# Altium integrated library TI Amplifiers and Linear Operational Amplifier High Speed.IntLib: 1100 symbols (part 35 of 44)
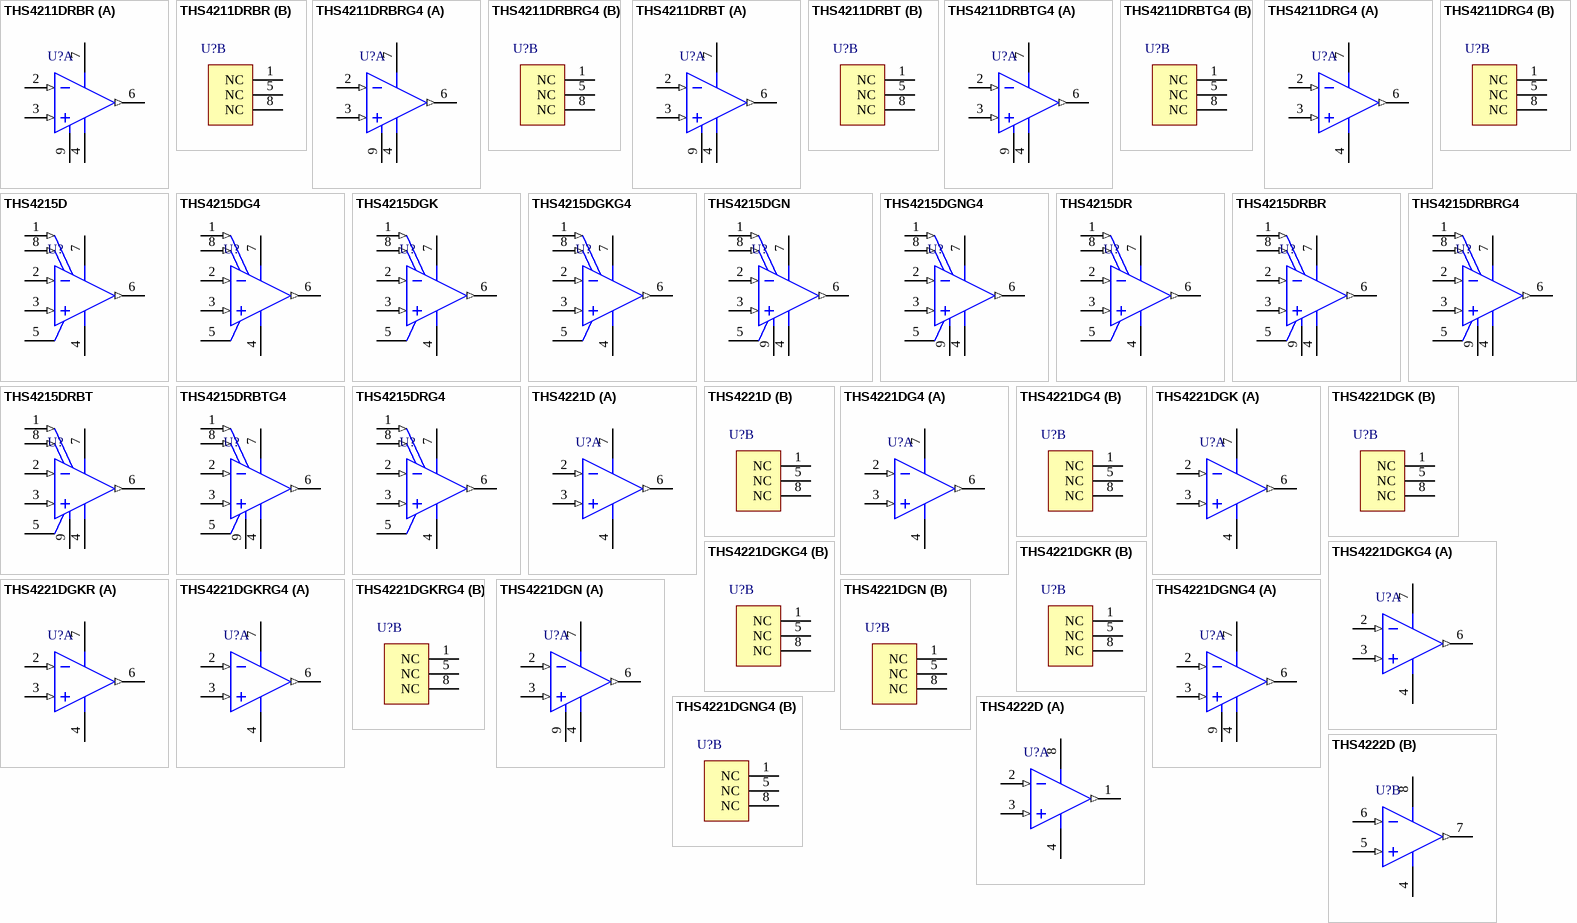
[diagram p85: symbols THS4211DRBR to THS4222D]

## THS4211DRBRG4
designator U?
Super-Fast, Ultra-Low-Distortion, High-Speed Operational Amplifier with Shutdown, 5 to 15 V, -40 to 85 degC, 8-pin SON (DRB8), Green (RoHS & no Sb/Br); Manufacturer: Texas Instruments; PartNumber: THS4211DRBRG4; 2nd Harmonic(dBc): 78; 3rd Harmonic(dBc): 100; @ MHz: 30; Acl, min stable gain(V/V): 1; BW @ Acl(MHz): 1000; Diff Gain(%): 0.007; Diff Phase(deg): 0.003; Iib(Max)(nA): 20000; Io(Typ)(mA): 170; Iq per channel(Max)(mA): 24; Settling Time (0.1%)(Typ)(ns): 22; Slew Rate(Typ)(V/us): 970; Sub Family: High Output Current Amplifier (>=50mA), High Speed Amplifier (>=50MHz); THD (Fc is 1 MHz)(Typ)(dB): -90; Vio(Max)(mV): 3; Vn at Flatband(Typ)(nV/rtHz): 7; Vs(Max)(V): 15; Vs(Min)(V): 5; DatasheetVersion: SLOS400E; PackageVersion: 4203482-2/K, 06/2012; PackageReference: DRB8-1750X1500TP; PackageDescription: 8-Pin Plastic Small Outline, Body 3 x 3 mm, Pitch 0.65 mm; Supplier 1: Digi-Key; Supplier Part Number 1: THS4211DRBRG4-ND; Supplier 2: Mouser; Supplier Part Number 2: 595-THS4211DRBRG4; Eco-Plan: Green (RoHS & no Sb/Br); Number of Channels: 1; Mounting Technology: Surface Mount; ComponentLink1Description: Manufacturer URL; ComponentLink1URL: http://www.ti.com/; ComponentLink2Description: Datasheet; ComponentLink2URL: http://www.ti.com/general/docs/lit/getliterature.tsp?genericPartNumber=THS4211&fileType=pdf; ComponentLink3Description: Package Specification; ComponentLink3URL: http://www.ti.com/litv/pdf/mpds118h
footprint TI-DRB8-1750X1500TP_V (SON, 8-Leads, Body 3x3mm, Pitch 0.65mm, Thermal Pad 1.50 x 3.8mm)
part A pins: 2 IN- (in), 3 IN+ (in), 4 VS- (power), 6 VOUT (out), 7 VS+ (power), 9 EP
part B pins: 1 NC, 5 NC, 8 NC

## THS4211DRBT
designator U?
Super-Fast, Ultra-Low-Distortion, High-Speed Operational Amplifier with Shutdown, 5 to 15 V, -40 to 85 degC, 8-pin SON (DRB8), Green (RoHS & no Sb/Br); Manufacturer: Texas Instruments; PartNumber: THS4211DRBT; 2nd Harmonic(dBc): 78; 3rd Harmonic(dBc): 100; @ MHz: 30; Acl, min stable gain(V/V): 1; BW @ Acl(MHz): 1000; Diff Gain(%): 0.007; Diff Phase(deg): 0.003; Iib(Max)(nA): 20000; Io(Typ)(mA): 170; Iq per channel(Max)(mA): 24; Settling Time (0.1%)(Typ)(ns): 22; Slew Rate(Typ)(V/us): 970; Sub Family: High Output Current Amplifier (>=50mA), High Speed Amplifier (>=50MHz); THD (Fc is 1 MHz)(Typ)(dB): -90; Vio(Max)(mV): 3; Vn at Flatband(Typ)(nV/rtHz): 7; Vs(Max)(V): 15; Vs(Min)(V): 5; DatasheetVersion: SLOS400E; PackageVersion: 4203482-2/K, 06/2012; PackageReference: DRB8-1750X1500TP; PackageDescription: 8-Pin Plastic Small Outline, Body 3 x 3 mm, Pitch 0.65 mm; Supplier 1: Digi-Key; Supplier Part Number 1: 296-16710-2-ND; Supplier 2: Digi-Key; Supplier Part Number 2: 296-16710-1-ND; Supplier 3: Digi-Key; Supplier Part Number 3: 296-16710-6-ND; Supplier 4: Mouser; Supplier Part Number 4: 595-THS4211DRBT; Eco-Plan: Green (RoHS & no Sb/Br); Number of Channels: 1; Mounting Technology: Surface Mount; ComponentLink1Description: Manufacturer URL; ComponentLink1URL: http://www.ti.com/; ComponentLink2Description: Datasheet; ComponentLink2URL: http://www.ti.com/general/docs/lit/getliterature.tsp?genericPartNumber=THS4211&fileType=pdf; ComponentLink3Description: Package Specification; ComponentLink3URL: http://www.ti.com/litv/pdf/mpds118h
footprint TI-DRB8-1750X1500TP_V (SON, 8-Leads, Body 3x3mm, Pitch 0.65mm, Thermal Pad 1.50 x 3.8mm)
part A pins: 2 IN- (in), 3 IN+ (in), 4 VS- (power), 6 VOUT (out), 7 VS+ (power), 9 EP
part B pins: 1 NC, 5 NC, 8 NC

## THS4211DRBTG4
designator U?
Super-Fast, Ultra-Low-Distortion, High-Speed Operational Amplifier with Shutdown, 5 to 15 V, -40 to 85 degC, 8-pin SON (DRB8), Green (RoHS & no Sb/Br); Manufacturer: Texas Instruments; PartNumber: THS4211DRBTG4; 2nd Harmonic(dBc): 78; 3rd Harmonic(dBc): 100; @ MHz: 30; Acl, min stable gain(V/V): 1; BW @ Acl(MHz): 1000; Diff Gain(%): 0.007; Diff Phase(deg): 0.003; Iib(Max)(nA): 20000; Io(Typ)(mA): 170; Iq per channel(Max)(mA): 24; Settling Time (0.1%)(Typ)(ns): 22; Slew Rate(Typ)(V/us): 970; Sub Family: High Output Current Amplifier (>=50mA), High Speed Amplifier (>=50MHz); THD (Fc is 1 MHz)(Typ)(dB): -90; Vio(Max)(mV): 3; Vn at Flatband(Typ)(nV/rtHz): 7; Vs(Max)(V): 15; Vs(Min)(V): 5; DatasheetVersion: SLOS400E; PackageVersion: 4203482-2/K, 06/2012; PackageReference: DRB8-1750X1500TP; PackageDescription: 8-Pin Plastic Small Outline, Body 3 x 3 mm, Pitch 0.65 mm; Supplier 1: Digi-Key; Supplier Part Number 1: THS4211DRBTG4-ND; Supplier 2: Mouser; Supplier Part Number 2: 595-THS4211DRBTG4; Eco-Plan: Green (RoHS & no Sb/Br); Number of Channels: 1; Mounting Technology: Surface Mount; ComponentLink1Description: Manufacturer URL; ComponentLink1URL: http://www.ti.com/; ComponentLink2Description: Datasheet; ComponentLink2URL: http://www.ti.com/general/docs/lit/getliterature.tsp?genericPartNumber=THS4211&fileType=pdf; ComponentLink3Description: Package Specification; ComponentLink3URL: http://www.ti.com/litv/pdf/mpds118h
footprint TI-DRB8-1750X1500TP_V (SON, 8-Leads, Body 3x3mm, Pitch 0.65mm, Thermal Pad 1.50 x 3.8mm)
part A pins: 2 IN- (in), 3 IN+ (in), 4 VS- (power), 6 VOUT (out), 7 VS+ (power), 9 EP
part B pins: 1 NC, 5 NC, 8 NC

## THS4211DRG4
designator U?
Super-Fast, Ultra-Low-Distortion, High-Speed Operational Amplifier with Shutdown, 5 to 15 V, -40 to 85 degC, 8-pin SOIC (D8), Green (RoHS & no Sb/Br); Manufacturer: Texas Instruments; PartNumber: THS4211DRG4; 2nd Harmonic(dBc): 78; 3rd Harmonic(dBc): 100; @ MHz: 30; Acl, min stable gain(V/V): 1; BW @ Acl(MHz): 1000; Diff Gain(%): 0.007; Diff Phase(deg): 0.003; Iib(Max)(nA): 20000; Io(Typ)(mA): 170; Iq per channel(Max)(mA): 24; Settling Time (0.1%)(Typ)(ns): 22; Slew Rate(Typ)(V/us): 970; Sub Family: High Output Current Amplifier (>=50mA), High Speed Amplifier (>=50MHz); THD (Fc is 1 MHz)(Typ)(dB): -90; Vio(Max)(mV): 14; Vn at Flatband(Typ)(nV/rtHz): 7; Vs(Max)(V): 15; Vs(Min)(V): 5; DatasheetVersion: SLOS400E; PackageVersion: 4040047-3/M, 06/2011; PackageReference: D8; PackageDescription: 8-Pin Plastic Small Outline, Body 4.9 x 3.9 mm, Pitch 1.27 mm; Supplier 1: Digi-Key; Supplier Part Number 1: THS4211DRG4-ND; Supplier 2: Newark; Supplier Part Number 2: 33K6956; Supplier 3: Mouser; Supplier Part Number 3: 595-THS4211DRG4; Eco-Plan: Green (RoHS & no Sb/Br); Number of Channels: 1; Mounting Technology: Surface Mount; Code_JEDEC: MS-012; ComponentLink1Description: Manufacturer URL; ComponentLink1URL: http://www.ti.com/; ComponentLink2Description: Datasheet; ComponentLink2URL: http://www.ti.com/general/docs/lit/getliterature.tsp?genericPartNumber=THS4211&fileType=pdf; ComponentLink3Description: Package Specification; ComponentLink3URL: http://www.ti.com/litv/pdf/msoi002j
footprint TI-D8_N (SOIC, 8-Leads, Body 4.9x3.9mm, Pitch 1.27mm, IPC Medium Density)
footprint TI-D8_L (SOIC, 8-Leads, Body 4.9x3.9mm, Pitch 1.27mm, IPC High Density)
footprint TI-D8_M (SOIC, 8-Leads, Body 4.9x3.9mm, Pitch 1.27mm, IPC Low Density)
part A pins: 2 IN- (in), 3 IN+ (in), 4 VS- (power), 6 VOUT (out), 7 VS+ (power)
part B pins: 1 NC, 5 NC, 8 NC

## THS4215D
designator U?
Super-Fast, Ultra-Low-Distortion, High-Speed Operational Amplifier with Shutdown, 5 to 15 V, -40 to 85 degC, 8-pin SOIC (D8), Green (RoHS & no Sb/Br); Manufacturer: Texas Instruments; PartNumber: THS4215D; 2nd Harmonic(dBc): 78; 3rd Harmonic(dBc): 100; @ MHz: 30; Acl, min stable gain(V/V): 1; BW @ Acl(MHz): 1000; Diff Gain(%): 0.007; Diff Phase(deg): 0.003; Iib(Max)(nA): 20000; Io(Typ)(mA): 170; Iq per channel(Max)(mA): 24; Settling Time (0.1%)(Typ)(ns): 22; Slew Rate(Typ)(V/us): 970; Sub Family: High Output Current Amplifier (>=50mA), High Speed Amplifier (>=50MHz); THD (Fc is 1 MHz)(Typ)(dB): -90; Vio(Max)(mV): 3; Vn at Flatband(Typ)(nV/rtHz): 7; Vs(Max)(V): 15; Vs(Min)(V): 5; DatasheetVersion: SLOS400E; PackageVersion: 4040047-3/M, 06/2011; PackageReference: D8; PackageDescription: 8-Pin Plastic Small Outline, Body 4.9 x 3.9 mm, Pitch 1.27 mm; Supplier 1: Digi-Key; Supplier Part Number 1: 296-13791-5-ND; Supplier 2: Newark; Supplier Part Number 2: 02E7116; Supplier 3: Mouser; Supplier Part Number 3: 595-THS4215D; Eco-Plan: Green (RoHS & no Sb/Br); Number of Channels: 1; Mounting Technology: Surface Mount; Code_JEDEC: MS-012; ComponentLink1Description: Manufacturer URL; ComponentLink1URL: http://www.ti.com/; ComponentLink2Description: Datasheet; ComponentLink2URL: http://www.ti.com/general/docs/lit/getliterature.tsp?genericPartNumber=THS4215&fileType=pdf; ComponentLink3Description: Package Specification; ComponentLink3URL: http://www.ti.com/litv/pdf/msoi002j
footprint TI-D8_N (SOIC, 8-Leads, Body 4.9x3.9mm, Pitch 1.27mm, IPC Medium Density)
footprint TI-D8_L (SOIC, 8-Leads, Body 4.9x3.9mm, Pitch 1.27mm, IPC High Density)
footprint TI-D8_M (SOIC, 8-Leads, Body 4.9x3.9mm, Pitch 1.27mm, IPC Low Density)
pins: 1 REF (in), 2 IN- (in), 3 IN+ (in), 4 VS- (power), 5 NC, 6 VOUT (out), 7 VS+ (power), 8 ~{PD} (in)

## THS4215DG4
designator U?
Super-Fast, Ultra-Low-Distortion, High-Speed Operational Amplifier with Shutdown, 5 to 15 V, -40 to 85 degC, 8-pin SOIC (D8), Green (RoHS & no Sb/Br); Manufacturer: Texas Instruments; PartNumber: THS4215DG4; 2nd Harmonic(dBc): 78; 3rd Harmonic(dBc): 100; @ MHz: 30; Acl, min stable gain(V/V): 1; BW @ Acl(MHz): 1000; Diff Gain(%): 0.007; Diff Phase(deg): 0.003; Iib(Max)(nA): 20000; Io(Typ)(mA): 170; Iq per channel(Max)(mA): 24; Settling Time (0.1%)(Typ)(ns): 22; Slew Rate(Typ)(V/us): 970; Sub Family: High Output Current Amplifier (>=50mA), High Speed Amplifier (>=50MHz); THD (Fc is 1 MHz)(Typ)(dB): -90; Vio(Max)(mV): 3; Vn at Flatband(Typ)(nV/rtHz): 7; Vs(Max)(V): 15; Vs(Min)(V): 5; DatasheetVersion: SLOS400E; PackageVersion: 4040047-3/M, 06/2011; PackageReference: D8; PackageDescription: 8-Pin Plastic Small Outline, Body 4.9 x 3.9 mm, Pitch 1.27 mm; Supplier 1: Digi-Key; Supplier Part Number 1: THS4215DG4-ND; Supplier 2: Newark; Supplier Part Number 2: 28M7735; Supplier 3: Mouser; Supplier Part Number 3: 595-THS4215DG4; Eco-Plan: Green (RoHS & no Sb/Br); Number of Channels: 1; Mounting Technology: Surface Mount; Code_JEDEC: MS-012; ComponentLink1Description: Manufacturer URL; ComponentLink1URL: http://www.ti.com/; ComponentLink2Description: Datasheet; ComponentLink2URL: http://www.ti.com/general/docs/lit/getliterature.tsp?genericPartNumber=THS4215&fileType=pdf; ComponentLink3Description: Package Specification; ComponentLink3URL: http://www.ti.com/litv/pdf/msoi002j
footprint TI-D8_N (SOIC, 8-Leads, Body 4.9x3.9mm, Pitch 1.27mm, IPC Medium Density)
footprint TI-D8_L (SOIC, 8-Leads, Body 4.9x3.9mm, Pitch 1.27mm, IPC High Density)
footprint TI-D8_M (SOIC, 8-Leads, Body 4.9x3.9mm, Pitch 1.27mm, IPC Low Density)
pins: 1 REF (in), 2 IN- (in), 3 IN+ (in), 4 VS- (power), 5 NC, 6 VOUT (out), 7 VS+ (power), 8 ~{PD} (in)

## THS4215DGK
designator U?
Super-Fast, Ultra-Low-Distortion, High-Speed Operational Amplifier with Shutdown, 5 to 15 V, -40 to 85 degC, 8-pin SOP (DGK8), Green (RoHS & no Sb/Br); Manufacturer: Texas Instruments; PartNumber: THS4215DGK; 2nd Harmonic(dBc): 78; 3rd Harmonic(dBc): 100; @ MHz: 30; Acl, min stable gain(V/V): 1; BW @ Acl(MHz): 1000; Diff Gain(%): 0.007; Diff Phase(deg): 0.003; Iib(Max)(nA): 20000; Io(Typ)(mA): 170; Iq per channel(Max)(mA): 24; Settling Time (0.1%)(Typ)(ns): 22; Slew Rate(Typ)(V/us): 970; Sub Family: High Output Current Amplifier (>=50mA), High Speed Amplifier (>=50MHz); THD (Fc is 1 MHz)(Typ)(dB): -90; Vio(Max)(mV): 3; Vn at Flatband(Typ)(nV/rtHz): 7; Vs(Max)(V): 15; Vs(Min)(V): 5; DatasheetVersion: SLOS400E; PackageVersion: 4073329/E, 05/2006; PackageReference: DGK8; PackageDescription: 8-Pin Thin Small Outline, Body 3 x 3 mm, Pitch 0.65 mm; Supplier 1: Digi-Key; Supplier Part Number 1: 296-16711-5-ND; Supplier 2: Mouser; Supplier Part Number 2: 595-THS4215DGK; Eco-Plan: Green (RoHS & no Sb/Br); Number of Channels: 1; Mounting Technology: Surface Mount; Code_JEDEC: MO-187; ComponentLink1Description: Manufacturer URL; ComponentLink1URL: http://www.ti.com/; ComponentLink2Description: Datasheet; ComponentLink2URL: http://www.ti.com/general/docs/lit/getliterature.tsp?genericPartNumber=THS4215&fileType=pdf; ComponentLink3Description: Package Specification; ComponentLink3URL: http://www.ti.com/litv/pdf/mpds028d
footprint TI-DGK8_N (SOP, 8-Leads, Body 3x3mm, Pitch 0.65mm, IPC Medium Density)
footprint TI-DGK8_L (SOP, 8-Leads, Body 3x3mm, Pitch 0.65mm, IPC High Density)
footprint TI-DGK8_M (SOP, 8-Leads, Body 3x3mm, Pitch 0.65mm, IPC Low Density)
pins: 1 REF (in), 2 IN- (in), 3 IN+ (in), 4 VS- (power), 5 NC, 6 VOUT (out), 7 VS+ (power), 8 ~{PD} (in)

## THS4215DGKG4
designator U?
Super-Fast, Ultra-Low-Distortion, High-Speed Operational Amplifier with Shutdown, 5 to 15 V, -40 to 85 degC, 8-pin SOP (DGK8), Green (RoHS & no Sb/Br); Manufacturer: Texas Instruments; PartNumber: THS4215DGKG4; 2nd Harmonic(dBc): 78; 3rd Harmonic(dBc): 100; @ MHz: 30; Acl, min stable gain(V/V): 1; BW @ Acl(MHz): 1000; Diff Gain(%): 0.007; Diff Phase(deg): 0.003; Iib(Max)(nA): 20000; Io(Typ)(mA): 170; Iq per channel(Max)(mA): 24; Settling Time (0.1%)(Typ)(ns): 22; Slew Rate(Typ)(V/us): 970; Sub Family: High Output Current Amplifier (>=50mA), High Speed Amplifier (>=50MHz); THD (Fc is 1 MHz)(Typ)(dB): -90; Vio(Max)(mV): 3; Vn at Flatband(Typ)(nV/rtHz): 7; Vs(Max)(V): 15; Vs(Min)(V): 5; DatasheetVersion: SLOS400E; PackageVersion: 4073329/E, 05/2006; PackageReference: DGK8; PackageDescription: 8-Pin Thin Small Outline, Body 3 x 3 mm, Pitch 0.65 mm; Supplier 1: Digi-Key; Supplier Part Number 1: THS4215DGKG4-ND; Supplier 2: Mouser; Supplier Part Number 2: 595-THS4215DGKG4; Eco-Plan: Green (RoHS & no Sb/Br); Number of Channels: 1; Mounting Technology: Surface Mount; Code_JEDEC: MO-187; ComponentLink1Description: Manufacturer URL; ComponentLink1URL: http://www.ti.com/; ComponentLink2Description: Datasheet; ComponentLink2URL: http://www.ti.com/general/docs/lit/getliterature.tsp?genericPartNumber=THS4215&fileType=pdf; ComponentLink3Description: Package Specification; ComponentLink3URL: http://www.ti.com/litv/pdf/mpds028d
footprint TI-DGK8_N (SOP, 8-Leads, Body 3x3mm, Pitch 0.65mm, IPC Medium Density)
footprint TI-DGK8_L (SOP, 8-Leads, Body 3x3mm, Pitch 0.65mm, IPC High Density)
footprint TI-DGK8_M (SOP, 8-Leads, Body 3x3mm, Pitch 0.65mm, IPC Low Density)
pins: 1 REF (in), 2 IN- (in), 3 IN+ (in), 4 VS- (power), 5 NC, 6 VOUT (out), 7 VS+ (power), 8 ~{PD} (in)

## THS4215DGN
designator U?
Super-Fast, Ultra-Low-Distortion, High-Speed Operational Amplifier with Shutdown, 5 to 15 V, -40 to 85 degC, 8-pin SOIC (DGN8), Green (RoHS & no Sb/Br); Manufacturer: Texas Instruments; PartNumber: THS4215DGN; 2nd Harmonic(dBc): 78; 3rd Harmonic(dBc): 100; @ MHz: 30; Acl, min stable gain(V/V): 1; BW @ Acl(MHz): 1000; Diff Gain(%): 0.007; Diff Phase(deg): 0.003; Iib(Max)(nA): 20000; Io(Typ)(mA): 170; Iq per channel(Max)(mA): 24; Settling Time (0.1%)(Typ)(ns): 22; Slew Rate(Typ)(V/us): 970; Sub Family: High Output Current Amplifier (>=50mA), High Speed Amplifier (>=50MHz); THD (Fc is 1 MHz)(Typ)(dB): -90; Vio(Max)(mV): 3; Vn at Flatband(Typ)(nV/rtHz): 7; Vs(Max)(V): 15; Vs(Min)(V): 5; DatasheetVersion: SLOS400E; PackageVersion: 4073271/F, 05/2011; PackageReference: DGN8-1760X1425TP; PackageDescription: 8-pin Plastic Small Outline, Body 3 x 3 mm, Pitch 0.65 mm; Supplier 1: Digi-Key; Supplier Part Number 1: 296-13658-5-ND; Supplier 2: Newark; Supplier Part Number 2: 02E7117; Supplier 3: Mouser; Supplier Part Number 3: 595-THS4215DGN; Eco-Plan: Green (RoHS & no Sb/Br); Number of Channels: 1; Mounting Technology: Surface Mount; Code_JEDEC: MO-187; ComponentLink1Description: Manufacturer URL; ComponentLink1URL: http://www.ti.com/; ComponentLink2Description: Datasheet; ComponentLink2URL: http://www.ti.com/general/docs/lit/getliterature.tsp?genericPartNumber=THS4215&fileType=pdf; ComponentLink3Description: Package Specification; ComponentLink3URL: http://www.ti.com/litv/pdf/mpds046e
footprint TI-DGN8-1760X1425TP_N (SOP, 8-Leads, Body 3x3mm, Pitch 0.65mm, Thermal Pad 1.76x1.425mm, IPC Medium Density)
footprint TI-DGN8-1760X1425TP_L (SOP, 8-Leads, Body 3x3mm, Pitch 0.65mm, Thermal Pad 1.76x1.425mm, IPC High Density)
footprint TI-DGN8-1760X1425TP_M (SOP, 8-Leads, Body 3x3mm, Pitch 0.65mm, Thermal Pad 1.76 x 1.425 mm, IPC Low Density)
pins: 1 REF (in), 2 IN- (in), 3 IN+ (in), 4 VS- (power), 5 NC, 6 VOUT (out), 7 VS+ (power), 8 ~{PD} (in), 9 EP (power)

## THS4215DGNG4
designator U?
Super-Fast, Ultra-Low-Distortion, High-Speed Operational Amplifier with Shutdown, 5 to 15 V, -40 to 85 degC, 8-pin SOIC (DGN8), Green (RoHS & no Sb/Br); Manufacturer: Texas Instruments; PartNumber: THS4215DGNG4; 2nd Harmonic(dBc): 78; 3rd Harmonic(dBc): 100; @ MHz: 30; Acl, min stable gain(V/V): 1; BW @ Acl(MHz): 1000; Diff Gain(%): 0.007; Diff Phase(deg): 0.003; Iib(Max)(nA): 20000; Io(Typ)(mA): 170; Iq per channel(Max)(mA): 24; Settling Time (0.1%)(Typ)(ns): 22; Slew Rate(Typ)(V/us): 970; Sub Family: High Output Current Amplifier (>=50mA), High Speed Amplifier (>=50MHz); THD (Fc is 1 MHz)(Typ)(dB): -90; Vio(Max)(mV): 3; Vn at Flatband(Typ)(nV/rtHz): 7; Vs(Max)(V): 15; Vs(Min)(V): 5; DatasheetVersion: SLOS400E; PackageVersion: 4073271/F, 05/2011; PackageReference: DGN8-1760X1425TP; PackageDescription: 8-pin Plastic Small Outline, Body 3 x 3 mm, Pitch 0.65 mm; Supplier 1: Digi-Key; Supplier Part Number 1: THS4215DGNG4-ND; Supplier 2: Mouser; Supplier Part Number 2: 595-THS4215DGNG4; Eco-Plan: Green (RoHS & no Sb/Br); Number of Channels: 1; Mounting Technology: Surface Mount; Code_JEDEC: MO-187; ComponentLink1Description: Manufacturer URL; ComponentLink1URL: http://www.ti.com/; ComponentLink2Description: Datasheet; ComponentLink2URL: http://www.ti.com/general/docs/lit/getliterature.tsp?genericPartNumber=THS4215&fileType=pdf; ComponentLink3Description: Package Specification; ComponentLink3URL: http://www.ti.com/litv/pdf/mpds046e
footprint TI-DGN8-1760X1425TP_N (SOP, 8-Leads, Body 3x3mm, Pitch 0.65mm, Thermal Pad 1.76x1.425mm, IPC Medium Density)
footprint TI-DGN8-1760X1425TP_L (SOP, 8-Leads, Body 3x3mm, Pitch 0.65mm, Thermal Pad 1.76x1.425mm, IPC High Density)
footprint TI-DGN8-1760X1425TP_M (SOP, 8-Leads, Body 3x3mm, Pitch 0.65mm, Thermal Pad 1.76 x 1.425 mm, IPC Low Density)
pins: 1 REF (in), 2 IN- (in), 3 IN+ (in), 4 VS- (power), 5 NC, 6 VOUT (out), 7 VS+ (power), 8 ~{PD} (in), 9 EP (power)

## THS4215DR
designator U?
Super-Fast, Ultra-Low-Distortion, High-Speed Operational Amplifier with Shutdown, 5 to 15 V, -40 to 85 degC, 8-pin SOIC (D8), Green (RoHS & no Sb/Br); Manufacturer: Texas Instruments; PartNumber: THS4215DR; 2nd Harmonic(dBc): 78; 3rd Harmonic(dBc): 100; @ MHz: 30; Acl, min stable gain(V/V): 1; BW @ Acl(MHz): 1000; Diff Gain(%): 0.007; Diff Phase(deg): 0.003; Iib(Max)(nA): 20000; Io(Typ)(mA): 170; Iq per channel(Max)(mA): 24; Settling Time (0.1%)(Typ)(ns): 22; Slew Rate(Typ)(V/us): 970; Sub Family: High Output Current Amplifier (>=50mA), High Speed Amplifier (>=50MHz); THD (Fc is 1 MHz)(Typ)(dB): -90; Vio(Max)(mV): 3; Vn at Flatband(Typ)(nV/rtHz): 7; Vs(Max)(V): 15; Vs(Min)(V): 5; DatasheetVersion: SLOS400E; PackageVersion: 4040047-3/M, 06/2011; PackageReference: D8; PackageDescription: 8-Pin Plastic Small Outline, Body 4.9 x 3.9 mm, Pitch 1.27 mm; Supplier 1: Digi-Key; Supplier Part Number 1: THS4215DR-ND; Supplier 2: Mouser; Supplier Part Number 2: 595-THS4215DR; Eco-Plan: Green (RoHS & no Sb/Br); Number of Channels: 1; Mounting Technology: Surface Mount; Code_JEDEC: MS-012; ComponentLink1Description: Manufacturer URL; ComponentLink1URL: http://www.ti.com/; ComponentLink2Description: Datasheet; ComponentLink2URL: http://www.ti.com/general/docs/lit/getliterature.tsp?genericPartNumber=THS4215&fileType=pdf; ComponentLink3Description: Package Specification; ComponentLink3URL: http://www.ti.com/litv/pdf/msoi002j
footprint TI-D8_N (SOIC, 8-Leads, Body 4.9x3.9mm, Pitch 1.27mm, IPC Medium Density)
footprint TI-D8_L (SOIC, 8-Leads, Body 4.9x3.9mm, Pitch 1.27mm, IPC High Density)
footprint TI-D8_M (SOIC, 8-Leads, Body 4.9x3.9mm, Pitch 1.27mm, IPC Low Density)
pins: 1 REF (in), 2 IN- (in), 3 IN+ (in), 4 VS- (power), 5 NC, 6 VOUT (out), 7 VS+ (power), 8 ~{PD} (in)

## THS4215DRBR
designator U?
Super-Fast, Ultra-Low-Distortion, High-Speed Operational Amplifier with Shutdown, 5 to 15 V, -40 to 85 degC, 8-pin SON (DRB8), Green (RoHS & no Sb/Br); Manufacturer: Texas Instruments; PartNumber: THS4215DRBR; 2nd Harmonic(dBc): 78; 3rd Harmonic(dBc): 100; @ MHz: 30; Acl, min stable gain(V/V): 1; BW @ Acl(MHz): 1000; Diff Gain(%): 0.007; Diff Phase(deg): 0.003; Iib(Max)(nA): 20000; Io(Typ)(mA): 170; Iq per channel(Max)(mA): 24; Settling Time (0.1%)(Typ)(ns): 22; Slew Rate(Typ)(V/us): 970; Sub Family: High Output Current Amplifier (>=50mA), High Speed Amplifier (>=50MHz); THD (Fc is 1 MHz)(Typ)(dB): -90; Vio(Max)(mV): 3; Vn at Flatband(Typ)(nV/rtHz): 7; Vs(Max)(V): 15; Vs(Min)(V): 5; DatasheetVersion: SLOS400E; PackageVersion: 4203482-2/K, 06/2012; PackageReference: DRB8-1750X1500TP; PackageDescription: 8-Pin Plastic Small Outline, Body 3 x 3 mm, Pitch 0.65 mm; Supplier 1: Digi-Key; Supplier Part Number 1: 296-16712-2-ND; Supplier 2: Digi-Key; Supplier Part Number 2: 296-16712-1-ND; Supplier 3: Digi-Key; Supplier Part Number 3: 296-16712-6-ND; Supplier 4: Mouser; Supplier Part Number 4: 595-THS4215DRBR; Eco-Plan: Green (RoHS & no Sb/Br); Number of Channels: 1; Mounting Technology: Surface Mount; ComponentLink1Description: Manufacturer URL; ComponentLink1URL: http://www.ti.com/; ComponentLink2Description: Datasheet; ComponentLink2URL: http://www.ti.com/general/docs/lit/getliterature.tsp?genericPartNumber=THS4215&fileType=pdf; ComponentLink3Description: Package Specification; ComponentLink3URL: http://www.ti.com/litv/pdf/mpds118h
footprint TI-DRB8-1750X1500TP_V (SON, 8-Leads, Body 3x3mm, Pitch 0.65mm, Thermal Pad 1.50 x 3.8mm)
pins: 1 REF (in), 2 IN- (in), 3 IN+ (in), 4 VS- (power), 5 NC, 6 VOUT (out), 7 VS+ (power), 8 ~{PD} (in), 9 EP (power)

## THS4215DRBRG4
designator U?
Super-Fast, Ultra-Low-Distortion, High-Speed Operational Amplifier with Shutdown, 5 to 15 V, -40 to 85 degC, 8-pin SON (DRB8), Green (RoHS & no Sb/Br); Manufacturer: Texas Instruments; PartNumber: THS4215DRBRG4; 2nd Harmonic(dBc): 78; 3rd Harmonic(dBc): 100; @ MHz: 30; Acl, min stable gain(V/V): 1; BW @ Acl(MHz): 1000; Diff Gain(%): 0.007; Diff Phase(deg): 0.003; Iib(Max)(nA): 20000; Io(Typ)(mA): 170; Iq per channel(Max)(mA): 24; Settling Time (0.1%)(Typ)(ns): 22; Slew Rate(Typ)(V/us): 970; Sub Family: High Output Current Amplifier (>=50mA), High Speed Amplifier (>=50MHz); THD (Fc is 1 MHz)(Typ)(dB): -90; Vio(Max)(mV): 3; Vn at Flatband(Typ)(nV/rtHz): 7; Vs(Max)(V): 15; Vs(Min)(V): 5; DatasheetVersion: SLOS400E; PackageVersion: 4203482-2/K, 06/2012; PackageReference: DRB8-1750X1500TP; PackageDescription: 8-Pin Plastic Small Outline, Body 3 x 3 mm, Pitch 0.65 mm; Supplier 1: Digi-Key; Supplier Part Number 1: THS4215DRBRG4-ND; Supplier 2: Mouser; Supplier Part Number 2: 595-THS4215DRBRG4; Eco-Plan: Green (RoHS & no Sb/Br); Number of Channels: 1; Mounting Technology: Surface Mount; ComponentLink1Description: Manufacturer URL; ComponentLink1URL: http://www.ti.com/; ComponentLink2Description: Datasheet; ComponentLink2URL: http://www.ti.com/general/docs/lit/getliterature.tsp?genericPartNumber=THS4215&fileType=pdf; ComponentLink3Description: Package Specification; ComponentLink3URL: http://www.ti.com/litv/pdf/mpds118h
footprint TI-DRB8-1750X1500TP_V (SON, 8-Leads, Body 3x3mm, Pitch 0.65mm, Thermal Pad 1.50 x 3.8mm)
pins: 1 REF (in), 2 IN- (in), 3 IN+ (in), 4 VS- (power), 5 NC, 6 VOUT (out), 7 VS+ (power), 8 ~{PD} (in), 9 EP (power)

## THS4215DRBT
designator U?
Super-Fast, Ultra-Low-Distortion, High-Speed Operational Amplifier with Shutdown, 5 to 15 V, -40 to 85 degC, 8-pin SON (DRB8), Green (RoHS & no Sb/Br); Manufacturer: Texas Instruments; PartNumber: THS4215DRBT; 2nd Harmonic(dBc): 78; 3rd Harmonic(dBc): 100; @ MHz: 30; Acl, min stable gain(V/V): 1; BW @ Acl(MHz): 1000; Diff Gain(%): 0.007; Diff Phase(deg): 0.003; Iib(Max)(nA): 20000; Io(Typ)(mA): 170; Iq per channel(Max)(mA): 24; Settling Time (0.1%)(Typ)(ns): 22; Slew Rate(Typ)(V/us): 970; Sub Family: High Output Current Amplifier (>=50mA), High Speed Amplifier (>=50MHz); THD (Fc is 1 MHz)(Typ)(dB): -90; Vio(Max)(mV): 3; Vn at Flatband(Typ)(nV/rtHz): 7; Vs(Max)(V): 15; Vs(Min)(V): 5; DatasheetVersion: SLOS400E; PackageVersion: 4203482-2/K, 06/2012; PackageReference: DRB8-1750X1500TP; PackageDescription: 8-Pin Plastic Small Outline, Body 3 x 3 mm, Pitch 0.65 mm; Supplier 1: Digi-Key; Supplier Part Number 1: 296-32339-2-ND; Supplier 2: Digi-Key; Supplier Part Number 2: 296-32339-1-ND; Supplier 3: Digi-Key; Supplier Part Number 3: 296-32339-6-ND; Supplier 4: Mouser; Supplier Part Number 4: 595-THS4215DRBT; Eco-Plan: Green (RoHS & no Sb/Br); Number of Channels: 1; Mounting Technology: Surface Mount; ComponentLink1Description: Manufacturer URL; ComponentLink1URL: http://www.ti.com/; ComponentLink2Description: Datasheet; ComponentLink2URL: http://www.ti.com/general/docs/lit/getliterature.tsp?genericPartNumber=THS4215&fileType=pdf; ComponentLink3Description: Package Specification; ComponentLink3URL: http://www.ti.com/litv/pdf/mpds118h
footprint TI-DRB8-1750X1500TP_V (SON, 8-Leads, Body 3x3mm, Pitch 0.65mm, Thermal Pad 1.50 x 3.8mm)
pins: 1 REF (in), 2 IN- (in), 3 IN+ (in), 4 VS- (power), 5 NC, 6 VOUT (out), 7 VS+ (power), 8 ~{PD} (in), 9 EP (power)

## THS4215DRBTG4
designator U?
Super-Fast, Ultra-Low-Distortion, High-Speed Operational Amplifier with Shutdown, 5 to 15 V, -40 to 85 degC, 8-pin SON (DRB8), Green (RoHS & no Sb/Br); Manufacturer: Texas Instruments; PartNumber: THS4215DRBTG4; 2nd Harmonic(dBc): 78; 3rd Harmonic(dBc): 100; @ MHz: 30; Acl, min stable gain(V/V): 1; BW @ Acl(MHz): 1000; Diff Gain(%): 0.007; Diff Phase(deg): 0.003; Iib(Max)(nA): 20000; Io(Typ)(mA): 170; Iq per channel(Max)(mA): 24; Settling Time (0.1%)(Typ)(ns): 22; Slew Rate(Typ)(V/us): 970; Sub Family: High Output Current Amplifier (>=50mA), High Speed Amplifier (>=50MHz); THD (Fc is 1 MHz)(Typ)(dB): -90; Vio(Max)(mV): 3; Vn at Flatband(Typ)(nV/rtHz): 7; Vs(Max)(V): 15; Vs(Min)(V): 5; DatasheetVersion: SLOS400E; PackageVersion: 4203482-2/K, 06/2012; PackageReference: DRB8-1750X1500TP; PackageDescription: 8-Pin Plastic Small Outline, Body 3 x 3 mm, Pitch 0.65 mm; Supplier 1: Digi-Key; Supplier Part Number 1: THS4215DRBTG4-ND; Supplier 2: Mouser; Supplier Part Number 2: 595-THS4215DRBTG4; Eco-Plan: Green (RoHS & no Sb/Br); Number of Channels: 1; Mounting Technology: Surface Mount; ComponentLink1Description: Manufacturer URL; ComponentLink1URL: http://www.ti.com/; ComponentLink2Description: Datasheet; ComponentLink2URL: http://www.ti.com/general/docs/lit/getliterature.tsp?genericPartNumber=THS4215&fileType=pdf; ComponentLink3Description: Package Specification; ComponentLink3URL: http://www.ti.com/litv/pdf/mpds118h
footprint TI-DRB8-1750X1500TP_V (SON, 8-Leads, Body 3x3mm, Pitch 0.65mm, Thermal Pad 1.50 x 3.8mm)
pins: 1 REF (in), 2 IN- (in), 3 IN+ (in), 4 VS- (power), 5 NC, 6 VOUT (out), 7 VS+ (power), 8 ~{PD} (in), 9 EP (power)

## THS4215DRG4
designator U?
Super-Fast, Ultra-Low-Distortion, High-Speed Operational Amplifier with Shutdown, 5 to 15 V, -40 to 85 degC, 8-pin SOIC (D8), Green (RoHS & no Sb/Br); Manufacturer: Texas Instruments; PartNumber: THS4215DRG4; 2nd Harmonic(dBc): 78; 3rd Harmonic(dBc): 100; @ MHz: 30; Acl, min stable gain(V/V): 1; BW @ Acl(MHz): 1000; Diff Gain(%): 0.007; Diff Phase(deg): 0.003; Iib(Max)(nA): 20000; Io(Typ)(mA): 170; Iq per channel(Max)(mA): 24; Settling Time (0.1%)(Typ)(ns): 22; Slew Rate(Typ)(V/us): 970; Sub Family: High Output Current Amplifier (>=50mA), High Speed Amplifier (>=50MHz); THD (Fc is 1 MHz)(Typ)(dB): -90; Vio(Max)(mV): 3; Vn at Flatband(Typ)(nV/rtHz): 7; Vs(Max)(V): 15; Vs(Min)(V): 5; DatasheetVersion: SLOS400E; PackageVersion: 4040047-3/M, 06/2011; PackageReference: D8; PackageDescription: 8-Pin Plastic Small Outline, Body 4.9 x 3.9 mm, Pitch 1.27 mm; Supplier 1: Digi-Key; Supplier Part Number 1: THS4215DRG4-ND; Supplier 2: Newark; Supplier Part Number 2: 33K6957; Supplier 3: Mouser; Supplier Part Number 3: 595-THS4215DRG4; Eco-Plan: Green (RoHS & no Sb/Br); Number of Channels: 1; Mounting Technology: Surface Mount; Code_JEDEC: MS-012; ComponentLink1Description: Manufacturer URL; ComponentLink1URL: http://www.ti.com/; ComponentLink2Description: Datasheet; ComponentLink2URL: http://www.ti.com/general/docs/lit/getliterature.tsp?genericPartNumber=THS4215&fileType=pdf; ComponentLink3Description: Package Specification; ComponentLink3URL: http://www.ti.com/litv/pdf/msoi002j
footprint TI-D8_N (SOIC, 8-Leads, Body 4.9x3.9mm, Pitch 1.27mm, IPC Medium Density)
footprint TI-D8_L (SOIC, 8-Leads, Body 4.9x3.9mm, Pitch 1.27mm, IPC High Density)
footprint TI-D8_M (SOIC, 8-Leads, Body 4.9x3.9mm, Pitch 1.27mm, IPC Low Density)
pins: 1 REF (in), 2 IN- (in), 3 IN+ (in), 4 VS- (power), 5 NC, 6 VOUT (out), 7 VS+ (power), 8 ~{PD} (in)

## THS4221D
designator U?
Low-Distortion High-Speed Rail-to-Rail Output Operational Amplifier, 2.7 to 15 V, -40 to 85 degC, 8-pin SOIC (D8), Green (RoHS & no Sb/Br); Manufacturer: Texas Instruments; PartNumber: THS4221D; 2nd Harmonic(dBc): 90; 3rd Harmonic(dBc): 100; @ MHz: 5; Acl, min stable gain(V/V): 1; BW @ Acl(MHz): 230; Diff Gain(%): 0.007; Iib(Max)(nA): 5000; Rail-Rail: Out; Settling Time (0.1%)(Typ)(ns): 25; Slew Rate(Typ)(V/us): 975; Sub Family: High Output Current Amplifier (>=50mA), High Speed Amplifier (>=50MHz); THD (Fc is 1 MHz)(Typ)(dB): -100; Vio(Max)(mV): 10; Vn at Flatband(Typ)(nV/rtHz): 13; Vs(Max)(V): 15; Vs(Min)(V): 2.7; DatasheetVersion: SLOS399G; PackageVersion: 4040047-3/M, 06/2011; PackageReference: D8; PackageDescription: 8-Pin Plastic Small Outline, Body 4.9 x 3.9 mm, Pitch 1.27 mm; Supplier 1: Digi-Key; Supplier Part Number 1: 296-14194-5-ND; Supplier 2: Farnell; Supplier Part Number 2: 8453314; Supplier 3: Newark; Supplier Part Number 3: 38K8257; Supplier 4: Mouser; Supplier Part Number 4: 595-THS4221D; Diff Phase(deg): 0.007; Eco-Plan: Green (RoHS & no Sb/Br); Io(Typ)(mA): 100; Number of Channels: 1; Mounting Technology: Surface Mount; Code_JEDEC: MS-012; ComponentLink1Description: Manufacturer URL; ComponentLink1URL: http://www.ti.com/; ComponentLink2Description: Datasheet; ComponentLink2URL: http://www.ti.com/general/docs/lit/getliterature.tsp?genericPartNumber=THS4221&fileType=pdf; ComponentLink3Description: Package Specification; ComponentLink3URL: http://www.ti.com/litv/pdf/msoi002j
footprint TI-D8_N (SOIC, 8-Leads, Body 4.9x3.9mm, Pitch 1.27mm, IPC Medium Density)
footprint TI-D8_L (SOIC, 8-Leads, Body 4.9x3.9mm, Pitch 1.27mm, IPC High Density)
footprint TI-D8_M (SOIC, 8-Leads, Body 4.9x3.9mm, Pitch 1.27mm, IPC Low Density)
part A pins: 2 IN- (in), 3 IN+ (in), 4 VS- (power), 6 VOUT (out), 7 VS+ (power)
part B pins: 1 NC, 5 NC, 8 NC

## THS4221DG4
designator U?
Low-Distortion High-Speed Rail-to-Rail Output Operational Amplifier, 2.7 to 15 V, -40 to 85 degC, 8-pin SOIC (D8), Green (RoHS & no Sb/Br); Manufacturer: Texas Instruments; PartNumber: THS4221DG4; 2nd Harmonic(dBc): 90; 3rd Harmonic(dBc): 100; @ MHz: 5; Acl, min stable gain(V/V): 1; BW @ Acl(MHz): 230; Diff Gain(%): 0.007; Iib(Max)(nA): 5000; Rail-Rail: Out; Settling Time (0.1%)(Typ)(ns): 25; Slew Rate(Typ)(V/us): 975; Sub Family: High Output Current Amplifier (>=50mA), High Speed Amplifier (>=50MHz); THD (Fc is 1 MHz)(Typ)(dB): -100; Vio(Max)(mV): 10; Vn at Flatband(Typ)(nV/rtHz): 13; Vs(Max)(V): 15; Vs(Min)(V): 2.7; DatasheetVersion: SLOS399G; PackageVersion: 4040047-3/M, 06/2011; PackageReference: D8; PackageDescription: 8-Pin Plastic Small Outline, Body 4.9 x 3.9 mm, Pitch 1.27 mm; Supplier 1: Digi-Key; Supplier Part Number 1: THS4221DG4-ND; Supplier 2: Mouser; Supplier Part Number 2: 595-THS4221DG4; Diff Phase(deg): 0.007; Eco-Plan: Green (RoHS & no Sb/Br); Io(Typ)(mA): 100; Number of Channels: 1; Mounting Technology: Surface Mount; Code_JEDEC: MS-012; ComponentLink1Description: Manufacturer URL; ComponentLink1URL: http://www.ti.com/; ComponentLink2Description: Datasheet; ComponentLink2URL: http://www.ti.com/general/docs/lit/getliterature.tsp?genericPartNumber=THS4221&fileType=pdf; ComponentLink3Description: Package Specification; ComponentLink3URL: http://www.ti.com/litv/pdf/msoi002j
footprint TI-D8_N (SOIC, 8-Leads, Body 4.9x3.9mm, Pitch 1.27mm, IPC Medium Density)
footprint TI-D8_L (SOIC, 8-Leads, Body 4.9x3.9mm, Pitch 1.27mm, IPC High Density)
footprint TI-D8_M (SOIC, 8-Leads, Body 4.9x3.9mm, Pitch 1.27mm, IPC Low Density)
part A pins: 2 IN- (in), 3 IN+ (in), 4 VS- (power), 6 VOUT (out), 7 VS+ (power)
part B pins: 1 NC, 5 NC, 8 NC

## THS4221DGK
designator U?
Low-Distortion High-Speed Rail-to-Rail Output Operational Amplifier, 2.7 to 15 V, -40 to 85 degC, 8-pin SOP (DGK8), Green (RoHS & no Sb/Br); Manufacturer: Texas Instruments; PartNumber: THS4221DGK; 2nd Harmonic(dBc): 90; 3rd Harmonic(dBc): 100; @ MHz: 5; Acl, min stable gain(V/V): 1; BW @ Acl(MHz): 230; Diff Gain(%): 0.007; Iib(Max)(nA): 5000; Rail-Rail: Out; Settling Time (0.1%)(Typ)(ns): 25; Slew Rate(Typ)(V/us): 975; Sub Family: High Output Current Amplifier (>=50mA), High Speed Amplifier (>=50MHz); THD (Fc is 1 MHz)(Typ)(dB): -100; Vio(Max)(mV): 10; Vn at Flatband(Typ)(nV/rtHz): 13; Vs(Max)(V): 15; Vs(Min)(V): 2.7; DatasheetVersion: SLOS399G; PackageVersion: 4073329/E, 05/2006; PackageReference: DGK8; PackageDescription: 8-Pin Thin Small Outline, Body 3 x 3 mm, Pitch 0.65 mm; Supplier 1: Digi-Key; Supplier Part Number 1: 296-16782-5-ND; Supplier 2: Mouser; Supplier Part Number 2: 595-THS4221DGK; Diff Phase(deg): 0.007; Eco-Plan: Green (RoHS & no Sb/Br); Io(Typ)(mA): 100; Number of Channels: 1; Mounting Technology: Surface Mount; Code_JEDEC: MO-187; ComponentLink1Description: Manufacturer URL; ComponentLink1URL: http://www.ti.com/; ComponentLink2Description: Datasheet; ComponentLink2URL: http://www.ti.com/general/docs/lit/getliterature.tsp?genericPartNumber=THS4221&fileType=pdf; ComponentLink3Description: Package Specification; ComponentLink3URL: http://www.ti.com/litv/pdf/mpds028d
footprint TI-DGK8_N (SOP, 8-Leads, Body 3x3mm, Pitch 0.65mm, IPC Medium Density)
footprint TI-DGK8_L (SOP, 8-Leads, Body 3x3mm, Pitch 0.65mm, IPC High Density)
footprint TI-DGK8_M (SOP, 8-Leads, Body 3x3mm, Pitch 0.65mm, IPC Low Density)
part A pins: 2 IN- (in), 3 IN+ (in), 4 VS- (power), 6 VOUT (out), 7 VS+ (power)
part B pins: 1 NC, 5 NC, 8 NC

## THS4221DGKG4
designator U?
Low-Distortion High-Speed Rail-to-Rail Output Operational Amplifier, 2.7 to 15 V, -40 to 85 degC, 8-pin SOP (DGK8), Green (RoHS & no Sb/Br); Manufacturer: Texas Instruments; PartNumber: THS4221DGKG4; 2nd Harmonic(dBc): 90; 3rd Harmonic(dBc): 100; @ MHz: 5; Acl, min stable gain(V/V): 1; BW @ Acl(MHz): 230; Diff Gain(%): 0.007; Iib(Max)(nA): 5000; Rail-Rail: Out; Settling Time (0.1%)(Typ)(ns): 25; Slew Rate(Typ)(V/us): 975; Sub Family: High Output Current Amplifier (>=50mA), High Speed Amplifier (>=50MHz); THD (Fc is 1 MHz)(Typ)(dB): -100; Vio(Max)(mV): 10; Vn at Flatband(Typ)(nV/rtHz): 13; Vs(Max)(V): 15; Vs(Min)(V): 2.7; DatasheetVersion: SLOS399G; PackageVersion: 4073329/E, 05/2006; PackageReference: DGK8; PackageDescription: 8-Pin Thin Small Outline, Body 3 x 3 mm, Pitch 0.65 mm; Supplier 1: Digi-Key; Supplier Part Number 1: THS4221DGKG4-ND; Supplier 2: Mouser; Supplier Part Number 2: 595-THS4221DGKG4; Diff Phase(deg): 0.007; Eco-Plan: Green (RoHS & no Sb/Br); Io(Typ)(mA): 100; Number of Channels: 1; Mounting Technology: Surface Mount; Code_JEDEC: MO-187; ComponentLink1Description: Manufacturer URL; ComponentLink1URL: http://www.ti.com/; ComponentLink2Description: Datasheet; ComponentLink2URL: http://www.ti.com/general/docs/lit/getliterature.tsp?genericPartNumber=THS4221&fileType=pdf; ComponentLink3Description: Package Specification; ComponentLink3URL: http://www.ti.com/litv/pdf/mpds028d
footprint TI-DGK8_N (SOP, 8-Leads, Body 3x3mm, Pitch 0.65mm, IPC Medium Density)
footprint TI-DGK8_L (SOP, 8-Leads, Body 3x3mm, Pitch 0.65mm, IPC High Density)
footprint TI-DGK8_M (SOP, 8-Leads, Body 3x3mm, Pitch 0.65mm, IPC Low Density)
part A pins: 2 IN- (in), 3 IN+ (in), 4 VS- (power), 6 VOUT (out), 7 VS+ (power)
part B pins: 1 NC, 5 NC, 8 NC

## THS4221DGKR
designator U?
Low-Distortion High-Speed Rail-to-Rail Output Operational Amplifier, 2.7 to 15 V, -40 to 85 degC, 8-pin SOP (DGK8), Green (RoHS & no Sb/Br); Manufacturer: Texas Instruments; PartNumber: THS4221DGKR; 2nd Harmonic(dBc): 90; 3rd Harmonic(dBc): 100; @ MHz: 5; Acl, min stable gain(V/V): 1; BW @ Acl(MHz): 230; Diff Gain(%): 0.007; Iib(Max)(nA): 5000; Rail-Rail: Out; Settling Time (0.1%)(Typ)(ns): 25; Slew Rate(Typ)(V/us): 975; Sub Family: High Output Current Amplifier (>=50mA), High Speed Amplifier (>=50MHz); THD (Fc is 1 MHz)(Typ)(dB): -100; Vio(Max)(mV): 10; Vn at Flatband(Typ)(nV/rtHz): 13; Vs(Max)(V): 15; Vs(Min)(V): 2.7; DatasheetVersion: SLOS399G; PackageVersion: 4073329/E, 05/2006; PackageReference: DGK8; PackageDescription: 8-Pin Thin Small Outline, Body 3 x 3 mm, Pitch 0.65 mm; Supplier 1: Digi-Key; Supplier Part Number 1: THS4221DGKR-ND; Supplier 2: Mouser; Supplier Part Number 2: 595-THS4221DGKR; Diff Phase(deg): 0.007; Eco-Plan: Green (RoHS & no Sb/Br); Io(Typ)(mA): 100; Number of Channels: 1; Mounting Technology: Surface Mount; Code_JEDEC: MO-187; ComponentLink1Description: Manufacturer URL; ComponentLink1URL: http://www.ti.com/; ComponentLink2Description: Datasheet; ComponentLink2URL: http://www.ti.com/general/docs/lit/getliterature.tsp?genericPartNumber=THS4221&fileType=pdf; ComponentLink3Description: Package Specification; ComponentLink3URL: http://www.ti.com/litv/pdf/mpds028d
footprint TI-DGK8_N (SOP, 8-Leads, Body 3x3mm, Pitch 0.65mm, IPC Medium Density)
footprint TI-DGK8_L (SOP, 8-Leads, Body 3x3mm, Pitch 0.65mm, IPC High Density)
footprint TI-DGK8_M (SOP, 8-Leads, Body 3x3mm, Pitch 0.65mm, IPC Low Density)
part A pins: 2 IN- (in), 3 IN+ (in), 4 VS- (power), 6 VOUT (out), 7 VS+ (power)
part B pins: 1 NC, 5 NC, 8 NC

## THS4221DGKRG4
designator U?
Low-Distortion High-Speed Rail-to-Rail Output Operational Amplifier, 2.7 to 15 V, -40 to 85 degC, 8-pin SOP (DGK8), Green (RoHS & no Sb/Br); Manufacturer: Texas Instruments; PartNumber: THS4221DGKRG4; 2nd Harmonic(dBc): 90; 3rd Harmonic(dBc): 100; @ MHz: 5; Acl, min stable gain(V/V): 1; BW @ Acl(MHz): 230; Diff Gain(%): 0.007; Iib(Max)(nA): 5000; Rail-Rail: Out; Settling Time (0.1%)(Typ)(ns): 25; Slew Rate(Typ)(V/us): 975; Sub Family: High Output Current Amplifier (>=50mA), High Speed Amplifier (>=50MHz); THD (Fc is 1 MHz)(Typ)(dB): -100; Vio(Max)(mV): 10; Vn at Flatband(Typ)(nV/rtHz): 13; Vs(Max)(V): 15; Vs(Min)(V): 2.7; DatasheetVersion: SLOS399G; PackageVersion: 4073329/E, 05/2006; PackageReference: DGK8; PackageDescription: 8-Pin Thin Small Outline, Body 3 x 3 mm, Pitch 0.65 mm; Supplier 1: Digi-Key; Supplier Part Number 1: THS4221DGKRG4-ND; Supplier 2: Mouser; Supplier Part Number 2: 595-THS4221DGKRG4; Diff Phase(deg): 0.007; Eco-Plan: Green (RoHS & no Sb/Br); Io(Typ)(mA): 100; Number of Channels: 1; Mounting Technology: Surface Mount; Code_JEDEC: MO-187; ComponentLink1Description: Manufacturer URL; ComponentLink1URL: http://www.ti.com/; ComponentLink2Description: Datasheet; ComponentLink2URL: http://www.ti.com/general/docs/lit/getliterature.tsp?genericPartNumber=THS4221&fileType=pdf; ComponentLink3Description: Package Specification; ComponentLink3URL: http://www.ti.com/litv/pdf/mpds028d
footprint TI-DGK8_N (SOP, 8-Leads, Body 3x3mm, Pitch 0.65mm, IPC Medium Density)
footprint TI-DGK8_L (SOP, 8-Leads, Body 3x3mm, Pitch 0.65mm, IPC High Density)
footprint TI-DGK8_M (SOP, 8-Leads, Body 3x3mm, Pitch 0.65mm, IPC Low Density)
part A pins: 2 IN- (in), 3 IN+ (in), 4 VS- (power), 6 VOUT (out), 7 VS+ (power)
part B pins: 1 NC, 5 NC, 8 NC

## THS4221DGN
designator U?
Low-Distortion High-Speed Rail-to-Rail Output Operational Amplifier, 2.7 to 15 V, -40 to 85 degC, 8-pin SOP (DGN8), Green (RoHS & no Sb/Br); Manufacturer: Texas Instruments; PartNumber: THS4221DGN; 2nd Harmonic(dBc): 90; 3rd Harmonic(dBc): 100; @ MHz: 5; Acl, min stable gain(V/V): 1; BW @ Acl(MHz): 230; Diff Gain(%): 0.007; Iib(Max)(nA): 5000; Rail-Rail: Out; Settling Time (0.1%)(Typ)(ns): 25; Slew Rate(Typ)(V/us): 975; Sub Family: High Output Current Amplifier (>=50mA), High Speed Amplifier (>=50MHz); THD (Fc is 1 MHz)(Typ)(dB): -100; Vio(Max)(mV): 10; Vn at Flatband(Typ)(nV/rtHz): 13; Vs(Max)(V): 15; Vs(Min)(V): 2.7; DatasheetVersion: SLOS399G; PackageVersion: 4073271/F, 05/2011; PackageReference: DGN8-1760X1425TP; PackageDescription: 8-pin Plastic Small Outline, Body 3 x 3 mm, Pitch 0.65 mm; Supplier 1: Digi-Key; Supplier Part Number 1: 296-14402-5-ND; Supplier 2: Newark; Supplier Part Number 2: 32H6492; Supplier 3: Mouser; Supplier Part Number 3: 595-THS4221DGN; Diff Phase(deg): 0.007; Eco-Plan: Green (RoHS & no Sb/Br); Io(Typ)(mA): 100; Number of Channels: 1; Mounting Technology: Surface Mount; Code_JEDEC: MO-187; ComponentLink1Description: Manufacturer URL; ComponentLink1URL: http://www.ti.com/; ComponentLink2Description: Datasheet; ComponentLink2URL: http://www.ti.com/general/docs/lit/getliterature.tsp?genericPartNumber=THS4221&fileType=pdf; ComponentLink3Description: Package Specification; ComponentLink3URL: http://www.ti.com/litv/pdf/mpds046e
footprint TI-DGN8-1760X1425TP_N (SOP, 8-Leads, Body 3x3mm, Pitch 0.65mm, Thermal Pad 1.76x1.425mm, IPC Medium Density)
footprint TI-DGN8-1760X1425TP_L (SOP, 8-Leads, Body 3x3mm, Pitch 0.65mm, Thermal Pad 1.76x1.425mm, IPC High Density)
footprint TI-DGN8-1760X1425TP_M (SOP, 8-Leads, Body 3x3mm, Pitch 0.65mm, Thermal Pad 1.76 x 1.425 mm, IPC Low Density)
part A pins: 2 IN- (in), 3 IN+ (in), 4 VS- (power), 6 VOUT (out), 7 VS+ (power), 9 EP
part B pins: 1 NC, 5 NC, 8 NC

## THS4221DGNG4
designator U?
Low-Distortion High-Speed Rail-to-Rail Output Operational Amplifier, 2.7 to 15 V, -40 to 85 degC, 8-pin SOP (DGN8), Green (RoHS & no Sb/Br); Manufacturer: Texas Instruments; PartNumber: THS4221DGNG4; 2nd Harmonic(dBc): 90; 3rd Harmonic(dBc): 100; @ MHz: 5; Acl, min stable gain(V/V): 1; BW @ Acl(MHz): 230; Diff Gain(%): 0.007; Iib(Max)(nA): 5000; Iq per channel(Max)(mA): 22; Settling Time (0.1%)(Typ)(ns): 25; Slew Rate(Typ)(V/us): 975; Sub Family: High Output Current Amplifier (>=50mA), High Speed Amplifier (>=50MHz); THD (Fc is 1 MHz)(Typ)(dB): -100; Vio(Max)(mV): 16; Vn at Flatband(Typ)(nV/rtHz): 13; Vs(Max)(V): 15; Vs(Min)(V): 2.7; DatasheetVersion: SLOS399G; PackageVersion: 4073271/F, 05/2011; PackageReference: DGN8-1760X1425TP; PackageDescription: 8-pin Plastic Small Outline, Body 3 x 3 mm, Pitch 0.65 mm; Supplier 1: Digi-Key; Supplier Part Number 1: THS4221DGNG4-ND; Supplier 2: Mouser; Supplier Part Number 2: 595-THS4221DGNG4; Diff Phase(deg): 0.007; Eco-Plan: Green (RoHS & no Sb/Br); Io(Typ)(mA): 100; Number of Channels: 1; Mounting Technology: Surface Mount; Code_JEDEC: MO-187; ComponentLink1Description: Manufacturer URL; ComponentLink1URL: http://www.ti.com/; ComponentLink2Description: Datasheet; ComponentLink2URL: http://www.ti.com/general/docs/lit/getliterature.tsp?genericPartNumber=THS4221&fileType=pdf; ComponentLink3Description: Package Specification; ComponentLink3URL: http://www.ti.com/litv/pdf/mpds046e
footprint TI-DGN8-1760X1425TP_N (SOP, 8-Leads, Body 3x3mm, Pitch 0.65mm, Thermal Pad 1.76x1.425mm, IPC Medium Density)
footprint TI-DGN8-1760X1425TP_L (SOP, 8-Leads, Body 3x3mm, Pitch 0.65mm, Thermal Pad 1.76x1.425mm, IPC High Density)
footprint TI-DGN8-1760X1425TP_M (SOP, 8-Leads, Body 3x3mm, Pitch 0.65mm, Thermal Pad 1.76 x 1.425 mm, IPC Low Density)
part A pins: 2 IN- (in), 3 IN+ (in), 4 VS- (power), 6 VOUT (out), 7 VS+ (power), 9 EP
part B pins: 1 NC, 5 NC, 8 NC

## THS4222D
designator U?
Low-Distortion High-Speed Rail-to-Rail Output, 2.7 to 15 V, -40 to 85 degC, 8-pin SOIC (D8), Green (RoHS & no Sb/Br); Manufacturer: Texas Instruments; PartNumber: THS4222D; 2nd Harmonic(dBc): 90; 3rd Harmonic(dBc): 100; @ MHz: 5; Acl, min stable gain(V/V): 1; BW @ Acl(MHz): 230; Diff Gain(%): 0.007; Diff Phase(deg): 0.0068; Iib(Max)(nA): 5000; Number of Channels: 2; Rail-Rail: Out; Settling Time (0.1%)(Typ)(ns): 25; Slew Rate(Typ)(V/us): 975; Sub Family: High Output Current Amplifier (>=50mA), High Speed Amplifier (>=50MHz); THD (Fc is 1 MHz)(Typ)(dB): -100; Vio(Max)(mV): 3; Vn at Flatband(Typ)(nV/rtHz): 13; Vs(Max)(V): 15; Vs(Min)(V): 2.7; DatasheetVersion: SLOS399G; PackageVersion: 4040047-3/M, 06/2011; PackageReference: D8; PackageDescription: 8-Pin Plastic Small Outline, Body 4.9 x 3.9 mm, Pitch 1.27 mm; Supplier 1: Digi-Key; Supplier Part Number 1: 296-13822-5-ND; Supplier 2: Newark; Supplier Part Number 2: 02E7120; Supplier 3: Mouser; Supplier Part Number 3: 595-THS4222D; Eco-Plan: Green (RoHS & no Sb/Br); Io(Typ)(mA): 100; Mounting Technology: Surface Mount; Code_JEDEC: MS-012; ComponentLink1Description: Manufacturer URL; ComponentLink1URL: http://www.ti.com/; ComponentLink2Description: Datasheet; ComponentLink2URL: http://www.ti.com/general/docs/lit/getliterature.tsp?genericPartNumber=THS4222&fileType=pdf; ComponentLink3Description: Package Specification; ComponentLink3URL: http://www.ti.com/litv/pdf/msoi002j
footprint TI-D8_N (SOIC, 8-Leads, Body 4.9x3.9mm, Pitch 1.27mm, IPC Medium Density)
footprint TI-D8_L (SOIC, 8-Leads, Body 4.9x3.9mm, Pitch 1.27mm, IPC High Density)
footprint TI-D8_M (SOIC, 8-Leads, Body 4.9x3.9mm, Pitch 1.27mm, IPC Low Density)
pins on every part: 4 VS- (power), 8 VS+ (power)
part A pins: 1 OUT1 (out), 2 IN1- (in), 3 IN1+ (in)
part B pins: 5 IN2+ (in), 6 IN2- (in), 7 OUT2 (out)

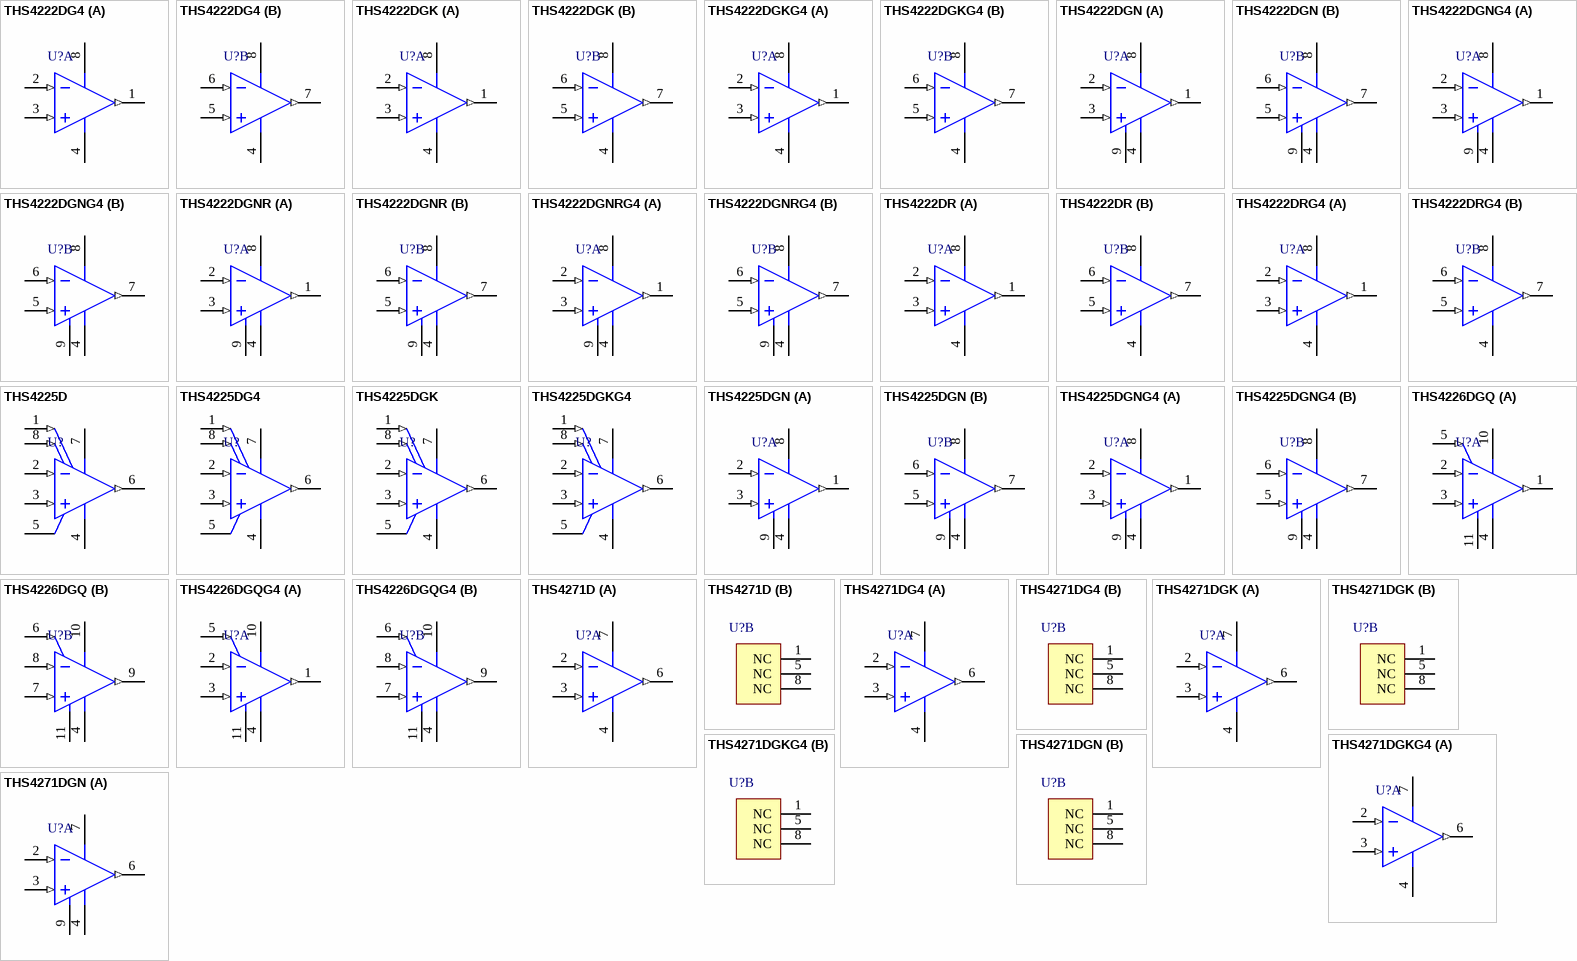
[diagram p41: symbols THS4222DG4 to THS4271DGN]

## THS4222DG4
designator U?
Low-Distortion High-Speed Rail-to-Rail Output, 2.7 to 15 V, -40 to 85 degC, 8-pin SOIC (D8), Green (RoHS & no Sb/Br); Manufacturer: Texas Instruments; PartNumber: THS4222DG4; 2nd Harmonic(dBc): 90; 3rd Harmonic(dBc): 100; @ MHz: 5; Acl, min stable gain(V/V): 1; BW @ Acl(MHz): 230; Diff Gain(%): 0.007; Diff Phase(deg): 0.0068; Iib(Max)(nA): 5000; Number of Channels: 2; Rail-Rail: Out; Settling Time (0.1%)(Typ)(ns): 25; Slew Rate(Typ)(V/us): 975; Sub Family: High Output Current Amplifier (>=50mA), High Speed Amplifier (>=50MHz); THD (Fc is 1 MHz)(Typ)(dB): -100; Vio(Max)(mV): 3; Vn at Flatband(Typ)(nV/rtHz): 13; Vs(Max)(V): 15; Vs(Min)(V): 2.7; DatasheetVersion: SLOS399G; PackageVersion: 4040047-3/M, 06/2011; PackageReference: D8; PackageDescription: 8-Pin Plastic Small Outline, Body 4.9 x 3.9 mm, Pitch 1.27 mm; Supplier 1: Digi-Key; Supplier Part Number 1: THS4222DG4-ND; Supplier 2: Mouser; Supplier Part Number 2: 595-THS4222DG4; Eco-Plan: Green (RoHS & no Sb/Br); Io(Typ)(mA): 100; Mounting Technology: Surface Mount; Code_JEDEC: MS-012; ComponentLink1Description: Manufacturer URL; ComponentLink1URL: http://www.ti.com/; ComponentLink2Description: Datasheet; ComponentLink2URL: http://www.ti.com/general/docs/lit/getliterature.tsp?genericPartNumber=THS4222&fileType=pdf; ComponentLink3Description: Package Specification; ComponentLink3URL: http://www.ti.com/litv/pdf/msoi002j
footprint TI-D8_N (SOIC, 8-Leads, Body 4.9x3.9mm, Pitch 1.27mm, IPC Medium Density)
footprint TI-D8_L (SOIC, 8-Leads, Body 4.9x3.9mm, Pitch 1.27mm, IPC High Density)
footprint TI-D8_M (SOIC, 8-Leads, Body 4.9x3.9mm, Pitch 1.27mm, IPC Low Density)
pins on every part: 4 VS- (power), 8 VS+ (power)
part A pins: 1 OUT1 (out), 2 IN1- (in), 3 IN1+ (in)
part B pins: 5 IN2+ (in), 6 IN2- (in), 7 OUT2 (out)

## THS4222DGK
designator U?
Low-Distortion High-Speed Rail-to-Rail Output, 2.7 to 15 V, -40 to 85 degC, 8-pin SOP (DGK8), Green (RoHS & no Sb/Br); Manufacturer: Texas Instruments; PartNumber: THS4222DGK; 2nd Harmonic(dBc): 90; 3rd Harmonic(dBc): 100; @ MHz: 5; Acl, min stable gain(V/V): 1; BW @ Acl(MHz): 230; Diff Gain(%): 0.007; Diff Phase(deg): 0.0068; Iib(Max)(nA): 5000; Number of Channels: 2; Rail-Rail: Out; Settling Time (0.1%)(Typ)(ns): 25; Slew Rate(Typ)(V/us): 975; Sub Family: High Output Current Amplifier (>=50mA), High Speed Amplifier (>=50MHz); THD (Fc is 1 MHz)(Typ)(dB): -100; Vio(Max)(mV): 3; Vn at Flatband(Typ)(nV/rtHz): 13; Vs(Max)(V): 15; Vs(Min)(V): 2.7; DatasheetVersion: SLOS399G; PackageVersion: 4073329/E, 05/2006; PackageReference: DGK8; PackageDescription: 8-Pin Thin Small Outline, Body 3 x 3 mm, Pitch 0.65 mm; Supplier 1: Digi-Key; Supplier Part Number 1: 296-16783-5-ND; Supplier 2: Newark; Supplier Part Number 2: 01J0867; Supplier 3: Mouser; Supplier Part Number 3: 595-THS4222DGK; Eco-Plan: Green (RoHS & no Sb/Br); Io(Typ)(mA): 100; Mounting Technology: Surface Mount; Code_JEDEC: MO-187; ComponentLink1Description: Manufacturer URL; ComponentLink1URL: http://www.ti.com/; ComponentLink2Description: Datasheet; ComponentLink2URL: http://www.ti.com/general/docs/lit/getliterature.tsp?genericPartNumber=THS4222&fileType=pdf; ComponentLink3Description: Package Specification; ComponentLink3URL: http://www.ti.com/litv/pdf/mpds028d
footprint TI-DGK8_N (SOP, 8-Leads, Body 3x3mm, Pitch 0.65mm, IPC Medium Density)
footprint TI-DGK8_L (SOP, 8-Leads, Body 3x3mm, Pitch 0.65mm, IPC High Density)
footprint TI-DGK8_M (SOP, 8-Leads, Body 3x3mm, Pitch 0.65mm, IPC Low Density)
pins on every part: 4 VS- (power), 8 VS+ (power)
part A pins: 1 OUT1 (out), 2 IN1- (in), 3 IN1+ (in)
part B pins: 5 IN2+ (in), 6 IN2- (in), 7 OUT2 (out)